# Altium footprint library BL-SBZ5220C4003YA.PcbLib: 1 footprints
Each footprint in its own frame and in the unit in brackets; x right, y up, seen from the top. Pads: shape width x height; smd on the part's side, far side on the other; paste and mask are expansions set on the pad; w line width, h text height; cw(c..) or ccw(c..) is an arc to the next point about the centre after c.
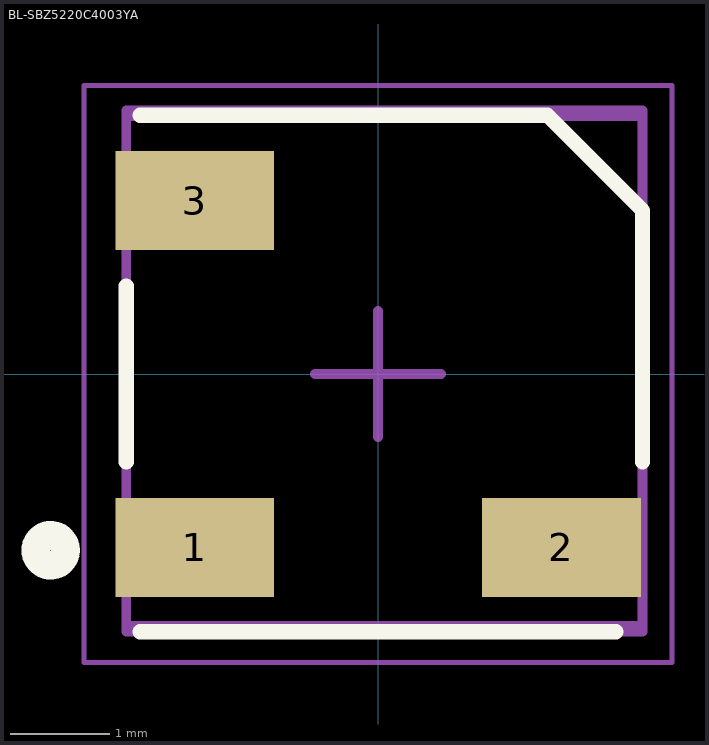
[diagram p0: the footprint, top view; thin cyan lines are the x and y axes]

## BL-SBZ5220C4003YA [mm] "Pitch 3.5mm Body 5.2X5.2 mm High 2.0 mm"
height 2
pads (3):
  rect 1.6x1 smd: 1(-1.85,-1.75) 2(1.85,-1.75) 3(-1.85,1.75)
Top Overlay:
  circle w0.29: c-3.302,-1.778 r0.15
  lines w0.152: -2.54,-0.889 -2.54,0.889 ; -2.4,-2.6 2.4,-2.6 ; -2.4,2.61 1.708,2.61 2.667,1.651 2.667,-0.889
Mechanical 13:
  lines w0.1: -2.54,-2.6 -2.54,2.6 2.667,2.6 2.667,-2.6 -2.54,-2.6
Mechanical 15:
  lines w0.05: -2.967,-2.91 2.967,-2.91 2.967,2.91 -2.967,2.91 -2.967,-2.91
  lines w0.1: -0.635,0 0.635,0 ; 0,-0.635 0,0.635
Mechanical 29:
  lines w0.1: -2.54,-2.54 2.667,-2.54 2.667,2.66 -2.54,2.66 -2.54,-2.54
  text ".Designator" at -0.762,-0.508 h1.52
3D body: height 2.05, standoff -0.01, extent -2.614,-2.6 2.585,2.6